# Altium schematic symbol library LED 0603.Schlib: 1 symbol
Pins are listed as number, name and electrical type; pins without a type are passive.

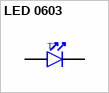
[diagram p0: symbol LED 0603]

## LED 0603
designator T?
pins: 1 A, 2 A
1 alternate drawing of the same symbol